# Altium footprint library CONV_K7803-3AR3.PcbLib: 1 footprints
Each footprint in its own frame and in the unit in brackets; x right, y up, seen from the top. Pads: shape width x height; smd on the part's side, far side on the other; paste and mask are expansions set on the pad; w line width, h text height; cw(c..) or ccw(c..) is an arc to the next point about the centre after c.
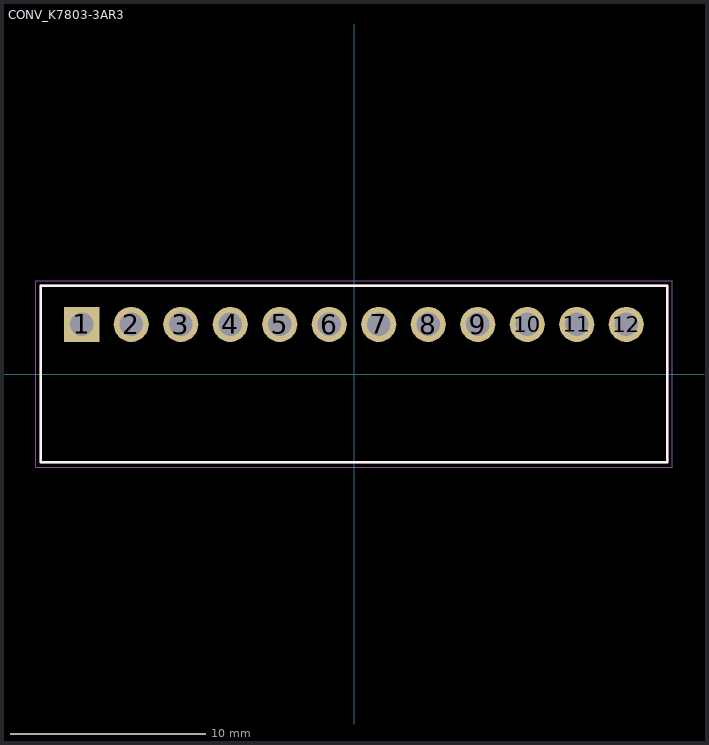
[diagram p0: the footprint, top view; thin cyan lines are the x and y axes]

## CONV_K7803-3AR3 [mm]
height 15.35
pads (12):
  rect 1.8x1.8 hole 1.2: 1(-13.97,2.545)
  round 1.8 hole 1.2: 2(-11.43,2.545) 3(-8.89,2.545) 4(-6.35,2.545) 5(-3.81,2.545) 6(-1.27,2.545) 7(1.27,2.545) 8(3.81,2.545) 9(6.35,2.545) 10(8.89,2.545) 11(11.43,2.545) 12(13.97,2.545)
Top Overlay:
  lines w0.127: -16.075,-4.525 -16.075,4.525 16.075,4.525 16.075,-4.525 -16.075,-4.525
Mechanical 13:
  lines w0.127: -16.075,-4.525 16.075,-4.525 16.075,4.525 -16.075,4.525 -16.075,-4.525
Mechanical 15:
  lines w0.05: -16.325,-4.775 -16.325,4.775 16.325,4.775 16.325,-4.775 -16.325,-4.775
3D body: height 14.85, standoff 0, extent -16.16,-4.572 16.129,4.6